# Altium footprint library Footprints.PcbLib: 23 footprints (part 1 of 2)
Each footprint in its own frame and in the unit in brackets; x right, y up, seen from the top. Pads: shape width x height; smd on the part's side, far side on the other; paste and mask are expansions set on the pad; w line width, h text height; cw(c..) or ccw(c..) is an arc to the next point about the centre after c.
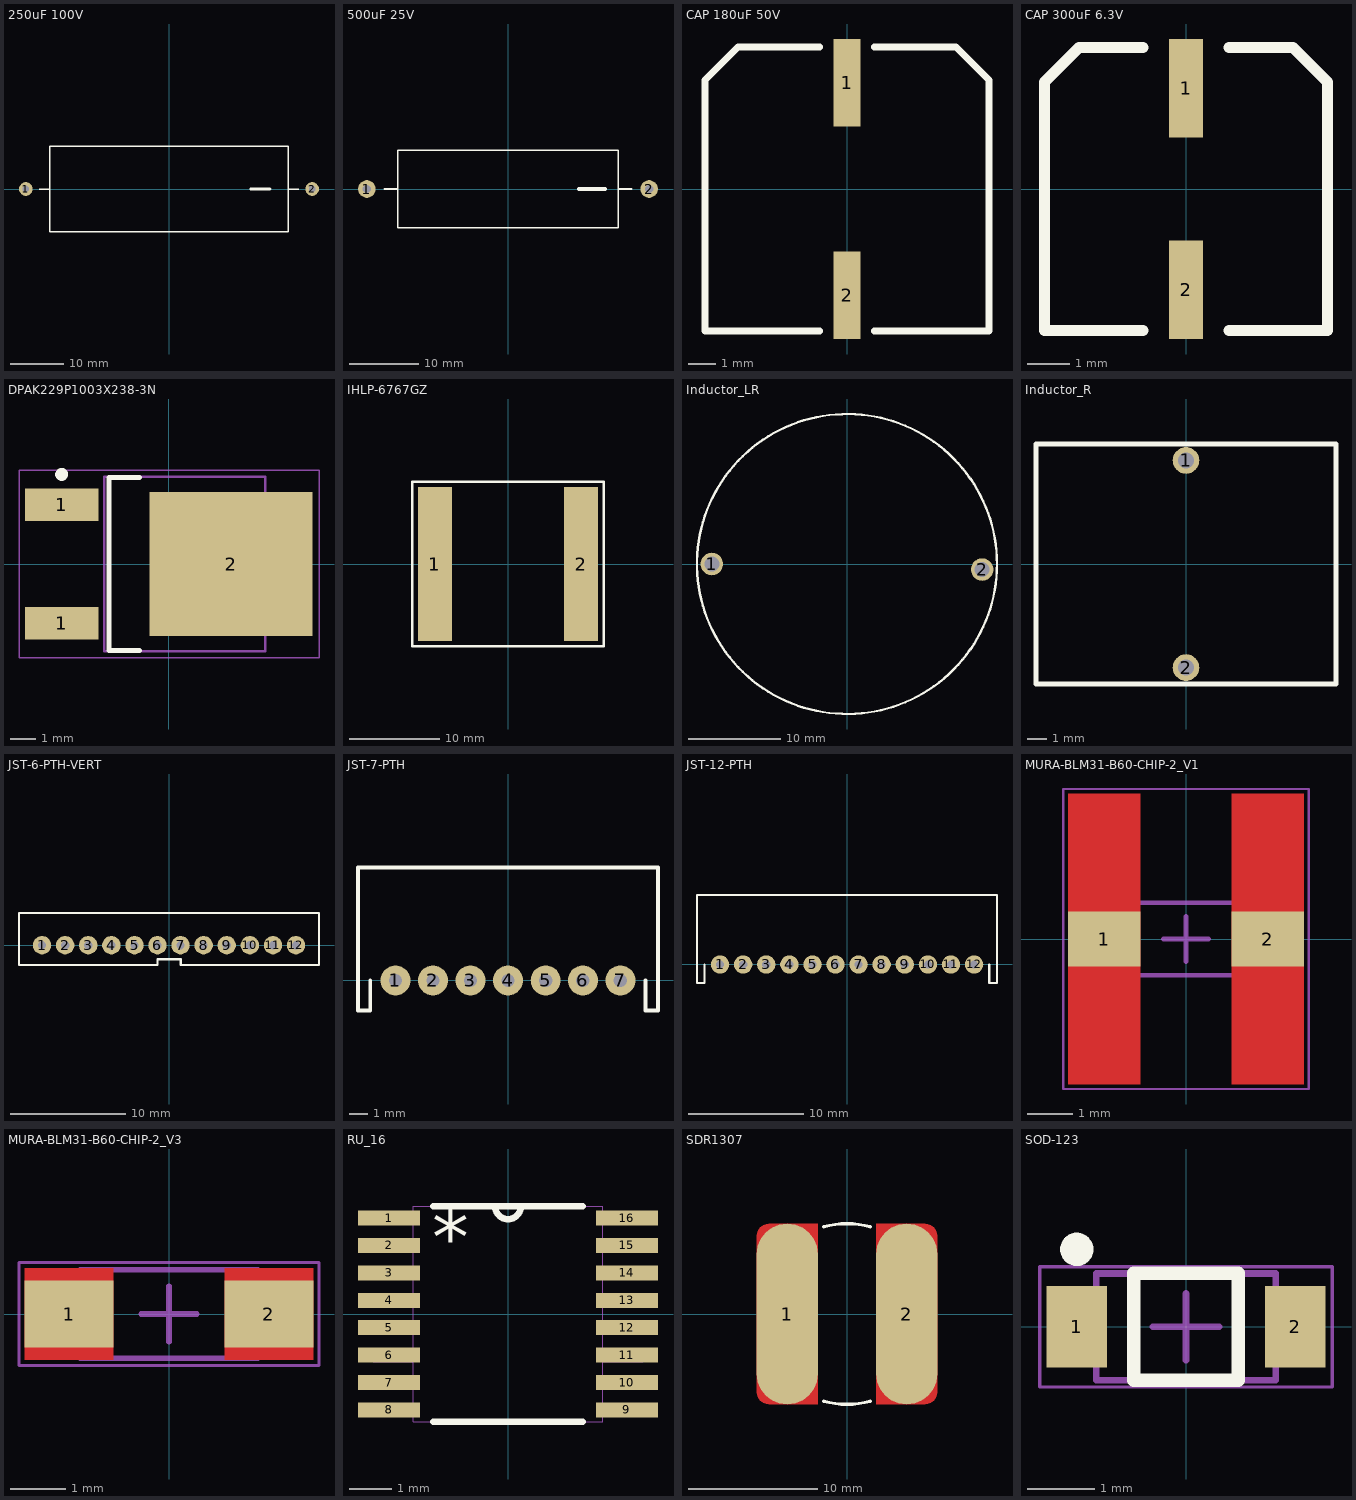
[diagram p0: the footprints below, top view; thin cyan lines are the x and y axes]

## 250uF 100V [mil]
pads (2):
  round 100 hole 48: 1(-1050,0) 2(1050,0)
Top Overlay:
  lines w10: -950,0 -875,0 ; 875,0 950,0 ; -875,0 -875,-313 875,-313 875,313 -875,313 -875,0
  lines w20: 600,0 740,0

## 500uF 25V [mil]
pads (2):
  round 100 hole 48: 1(-800,0) 2(800,0)
Top Overlay:
  lines w10: -700,0 -625,0 ; 625,0 700,0 ; -625,0 -625,219 625,219 625,-219 -625,-219 -625,0
  lines w20: 400,0 550,0

## CAP 180uF 50V [mm]
pads (2):
  rect 1x3.2 smd: 1(0,3.9) 2(0,-3.9)
Top Overlay:
  lines w0.254: -1,-5.2 -5.2,-5.2 -5.2,4 -4,5.2 -1,5.2 ; 1,-5.2 5.2,-5.2 5.2,4 4,5.2 1,5.2

## CAP 300uF 6.3V [mm]
pads (2):
  rect 0.8x2.3 smd: 1(0,2.35) 2(0,-2.35)
Top Overlay:
  lines w0.254: -1,-3.3 -3.3,-3.3 -3.3,2.5 -2.5,3.3 -1,3.3 ; 1,-3.3 3.3,-3.3 3.3,2.5 2.5,3.3 1,3.3

## DPAK229P1003X238-3N [mm] "D-PAK, 3-Pads, Body 6.21x6.73mm (max), IPC Medium Density"
height 2.38
pads (3):
  rect 2.85x1.25 smd: 1(-4.15,-2.29) 1(-4.15,2.29)
  rect 6.3x5.55 smd: 2(2.4,0)
Top Overlay:
  circle w0.25: c-4.15,3.465 r0.125
  lines w0.2: -1.15,-3.35 -2.325,-3.35 -2.325,3.35 -1.15,3.35
Mechanical 13:
  lines w0.1: -2.5,-3.375 3.72,-3.375 3.72,3.375 -2.5,3.375 -2.5,-3.375
Mechanical 15:
  lines w0.05: -5.8,-3.625 5.8,-3.625 5.8,3.625 -5.8,3.625 -5.8,-3.625
  lines w0.1: -0.5,0 0.5,0 ; 0,-0.5 0,0.5
3D body: height 2.38, standoff 0.13, extent -2.5,-3.375 3.72,3.375

## IHLP-6767GZ [mil]
pads (2):
  rect 150x675 smd: 1(-320,0) 2(320,0)
Top Overlay:
  lines w10: -420,-360 -420,167.5 -420,360 420,360 420,-360 -420,-360

## Inductor_LR [mm]
pads (2):
  round 2.43 hole 1.63: 1(-14.6,0) 2(14.6,-0.6)
Top Overlay:
  circle w0.254: c0,0 r16.2

## Inductor_R [mm]
pads (2):
  round 1.38 hole 0.83: 1(0,5.35) 2(0,-5.35)
Top Overlay:
  lines w0.254: -7.75,-6.2 -7.75,6.2 7.75,6.2 7.75,-6.2 -7.75,-6.2

## JST-6-PTH-VERT [mil]
pads (12):
  round 63 hole 28: 1(-433.07,0) 2(-354.33,0) 3(-275.59,0) 4(-196.59,0) 5(-117.59,0) 6(-39.37,0) 7(39.37,0) 8(118.11,0) 9(196.85,0) 10(275.85,0) 11(354.85,0) 12(433.07,0)
Top Overlay:
  lines w8: -511.81,-67.84 -511.81,110 511.81,110 511.81,-67.84 40,-67.84 40,-48.16 -39.37,-48.16 -39.37,-67.84 -511.81,-67.84

## JST-7-PTH [mil]
pads (7):
  round 63 hole 28: 1(-236.48,0) 2(-157.74,0) 3(-79,0) 4(0,0) 5(79,0) 6(157.22,0) 7(235.96,0)
Top Overlay:
  lines w8: -315.22,237 -315.22,-62.99 -289.63,-62.99 -289.63,0 ; -314.96,237 314.96,237 314.96,-62.99 288.96,-62.99 288.96,0

## JST-12-PTH [mil]
pads (12):
  round 63 hole 28: 1(-433.07,0) 2(-354.33,0) 3(-275.59,0) 4(-196.59,0) 5(-117.59,0) 6(-39.37,0) 7(39.37,0) 8(118.11,0) 9(197.11,0) 10(276.11,0) 11(354.59,0) 12(433.59,0)
Top Overlay:
  lines w8: -486.22,0 -486.22,-62.99 -511.81,-62.99 -511.81,237 511.81,237 511.81,-62.99 485.81,-62.99 485.81,0

## MURA-BLM31-B60-CHIP-2_V1 [mm] "Hand Drawn, 2-Leads, Body 3.2x1.6mm, Pitch 3.6mm, 18um Land Pad Thickness"
height 1.3
pads (2):
  rect 1.6x1.2 smd mask+0: 1(-1.8,0) 2(1.8,0)
Top Layer:
  rectangle: -2.6,-3.2 -1,3.2
  region: 2.6,3.2 1,3.2 1,-3.2 2.6,-3.2
Mechanical 6:
  text "Land Pattern Adapted for 18um Land Pad Thickness" at -2.275,3.5 h0.1
Mechanical 13:
  lines w0.1: -1.6,-0.8 1.6,-0.8 1.6,0.8 -1.6,0.8 -1.6,-0.8
Mechanical 15:
  lines w0.05: -2.7,-3.3 2.7,-3.3 2.7,3.3 -2.7,3.3 -2.7,-3.3
  lines w0.1: -0.5,0 0.5,0 ; 0,-0.5 0,0.5
3D body: height 1.3, standoff 0, extent -1.6,-0.8 1.6,0.8

## MURA-BLM31-B60-CHIP-2_V3 [mm] "Chip Ferrite Bead, 2-Leads, Body 3.2x1.6mm, Height 1.3mm, 70um Land Pad Thickness, 6A Rated Current"
height 1.3
pads (2):
  rect 1.6x1.2 smd: 1(-1.8,0) 2(1.8,0)
Top Layer:
  rectangle: -2.6,-0.825 -1,0.825
  region: 2.6,0.825 1,0.825 1,-0.825 2.6,-0.825
Mechanical 13:
  lines w0.1: -1.6,-0.8 1.6,-0.8 1.6,0.8 -1.6,0.8 -1.6,-0.8
Mechanical 15:
  lines w0.05: -2.7,-0.925 2.7,-0.925 2.7,0.925 -2.7,0.925 -2.7,-0.925
  lines w0.1: -0.5,0 0.5,0 ; 0,-0.5 0,0.5
3D body: height 1.3, standoff 0, extent -1.6,-0.8 1.6,0.8

## RU_16 [mil]
pads (16):
  rect 58x14 smd: 1(-111,89.57) 2(-111,63.98) 3(-111,38.39) 4(-111,12.8) 5(-111,-12.8) 6(-111,-38.39) 7(-111,-63.98) 8(-111,-89.57) 9(111,-89.57) 10(111,-63.98) 11(111,-38.39) 12(111,-12.8) 13(111,12.8) 14(111,38.39) 15(111,63.98) 16(111,89.57)
Top Overlay:
  lines w6: -69.61,-100.5 69.61,-100.5 ; -69.61,100.5 69.61,100.5 ; -12,100.5 ccw(c0,100.5) 12,100.5
  text "*" at -70.87,47.24 h50
Mechanical 1:
  lines w0: -12,100.5 ccw(c0,100.5) 12,100.5 ; -126,-95.57 -126,-83.57 -88.5,-83.57 -88.5,-95.57 -126,-95.57 ; -126,-69.98 -126,-57.98 -88.5,-57.98 -88.5,-69.98 -126,-69.98 ; -126,-44.39 -126,-32.39 -88.5,-32.39 -88.5,-44.39 -126,-44.39 ; -126,-18.8 -126,-6.8 -88.5,-6.8 -88.5,-18.8 -126,-18.8 ; -126,6.8 -126,18.8 -88.5,18.8 -88.5,6.8 -126,6.8 ; -126,32.39 -126,44.39 -88.5,44.39 -88.5,32.39 -126,32.39 ; -126,57.98 -126,69.98 -88.5,69.98 -88.5,57.98 -126,57.98 ; -126,83.57 -126,95.57 -88.5,95.57 -88.5,83.57 -126,83.57 ; -88.5,-100.5 88.5,-100.5 88.5,100.5 -88.5,100.5 -88.5,-100.5 ; 88.5,-95.57 88.5,-83.57 126,-83.57 126,-95.57 88.5,-95.57 ; 88.5,-69.98 88.5,-57.98 126,-57.98 126,-69.98 88.5,-69.98 ; 88.5,-44.39 88.5,-32.39 126,-32.39 126,-44.39 88.5,-44.39 ; 88.5,-18.8 88.5,-6.8 126,-6.8 126,-18.8 88.5,-18.8 ; 88.5,6.8 88.5,18.8 126,18.8 126,6.8 88.5,6.8 ; 88.5,32.39 88.5,44.39 126,44.39 126,32.39 88.5,32.39 ; 88.5,57.98 88.5,69.98 126,69.98 126,57.98 88.5,57.98 ; 88.5,83.57 88.5,95.57 126,95.57 126,83.57 88.5,83.57

## SDR1307 [mm]
pads (2):
  rrect100% 4.75x14 smd: 1(-4.625,0) 2(4.625,0)
Top Layer:
  region: -6,7 -2.25,7 -2.25,-7 -6,-7 -6.066,-7 -6.261,-6.974 -6.504,-6.873 -6.713,-6.713 -6.873,-6.504 -6.974,-6.261 -7,-6.066 -7,-6 -7,6 -7,6.066 -6.974,6.261 -6.873,6.504 -6.713,6.713 -6.504,6.873 -6.261,6.974 -6.066,7
  region: 6,7 2.25,7 2.25,-7 6,-7 6.066,-7 6.261,-6.974 6.504,-6.873 6.713,-6.713 6.873,-6.504 6.974,-6.261 7,-6.066 7,-6 7,6 7,6.066 6.974,6.261 6.873,6.504 6.713,6.713 6.504,6.873 6.261,6.974 6.066,7
Top Overlay:
  lines w0.254: -1.812,-6.761 ccw(c0,0) 1.812,-6.761 ; -1.812,6.761 cw(c0,0) 1.812,6.761

## SOD-123 [mm] "SOD, 2-Leads, Body 2.69x1.6mm"
height 1.35
pads (2):
  rect 0.91x1.22 smd: 1(-1.635,0) 2(1.635,0)
Top Overlay:
  circle w0.25: c-1.635,1.16 r0.125
  lines w0.2: -0.78,-0.8 -0.78,0.8 0.78,0.8 0.78,-0.8 -0.78,-0.8
Mechanical 13:
  lines w0.1: -1.345,-0.8 -1.345,0.8 1.345,0.8 1.345,-0.8 -1.345,-0.8
Mechanical 15:
  lines w0.05: -2.19,-0.9 -2.19,0.9 2.19,0.9 2.19,-0.9 -2.19,-0.9
  lines w0.1: -0.5,0 0.5,0 ; 0,-0.5 0,0.5
3D body: height 1.35, standoff 0, extent -1.345,-0.8 1.345,0.8